# EAGLE library part 35VA (library trafo-amveco)
35 VA toroidal PC-mount transformer
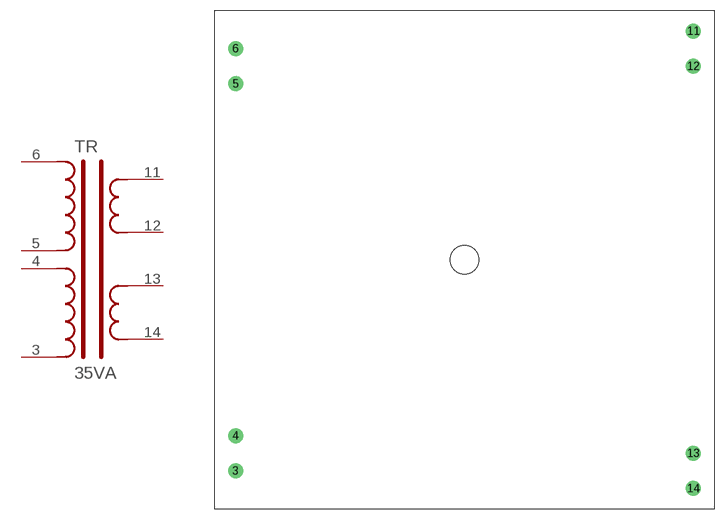
[diagram p1: symbol with the pads of 35VA-PC; footprint 35VA-PC]

Designator prefix TR

## 35VA  [35VA-PC]
3  3  pas
4  4  pas
5  5  pas
6  6  pas
11  11  pas
12  12  pas
13  13  pas
14  14  pas

## Footprint 35VA-PC (pad centres in mm)
AMVECO (a.k.a Talema) 35 VA PC-mount encapsulated toroidal transformer
drill 1.143 pad 2.159 round: 3 -33.02,-30.48; 4 -33.02,-25.4; 5 -33.02,25.4; 6 -33.02,30.48; 11 33.02,33.02; 12 33.02,27.94; 13 33.02,-27.94; 14 33.02,-33.02
hole 4.064 at 0,0